# EAGLE library part INTERFACE (library Doc-Test_Interface)
Acquisition interface 160 pin AMP M Series
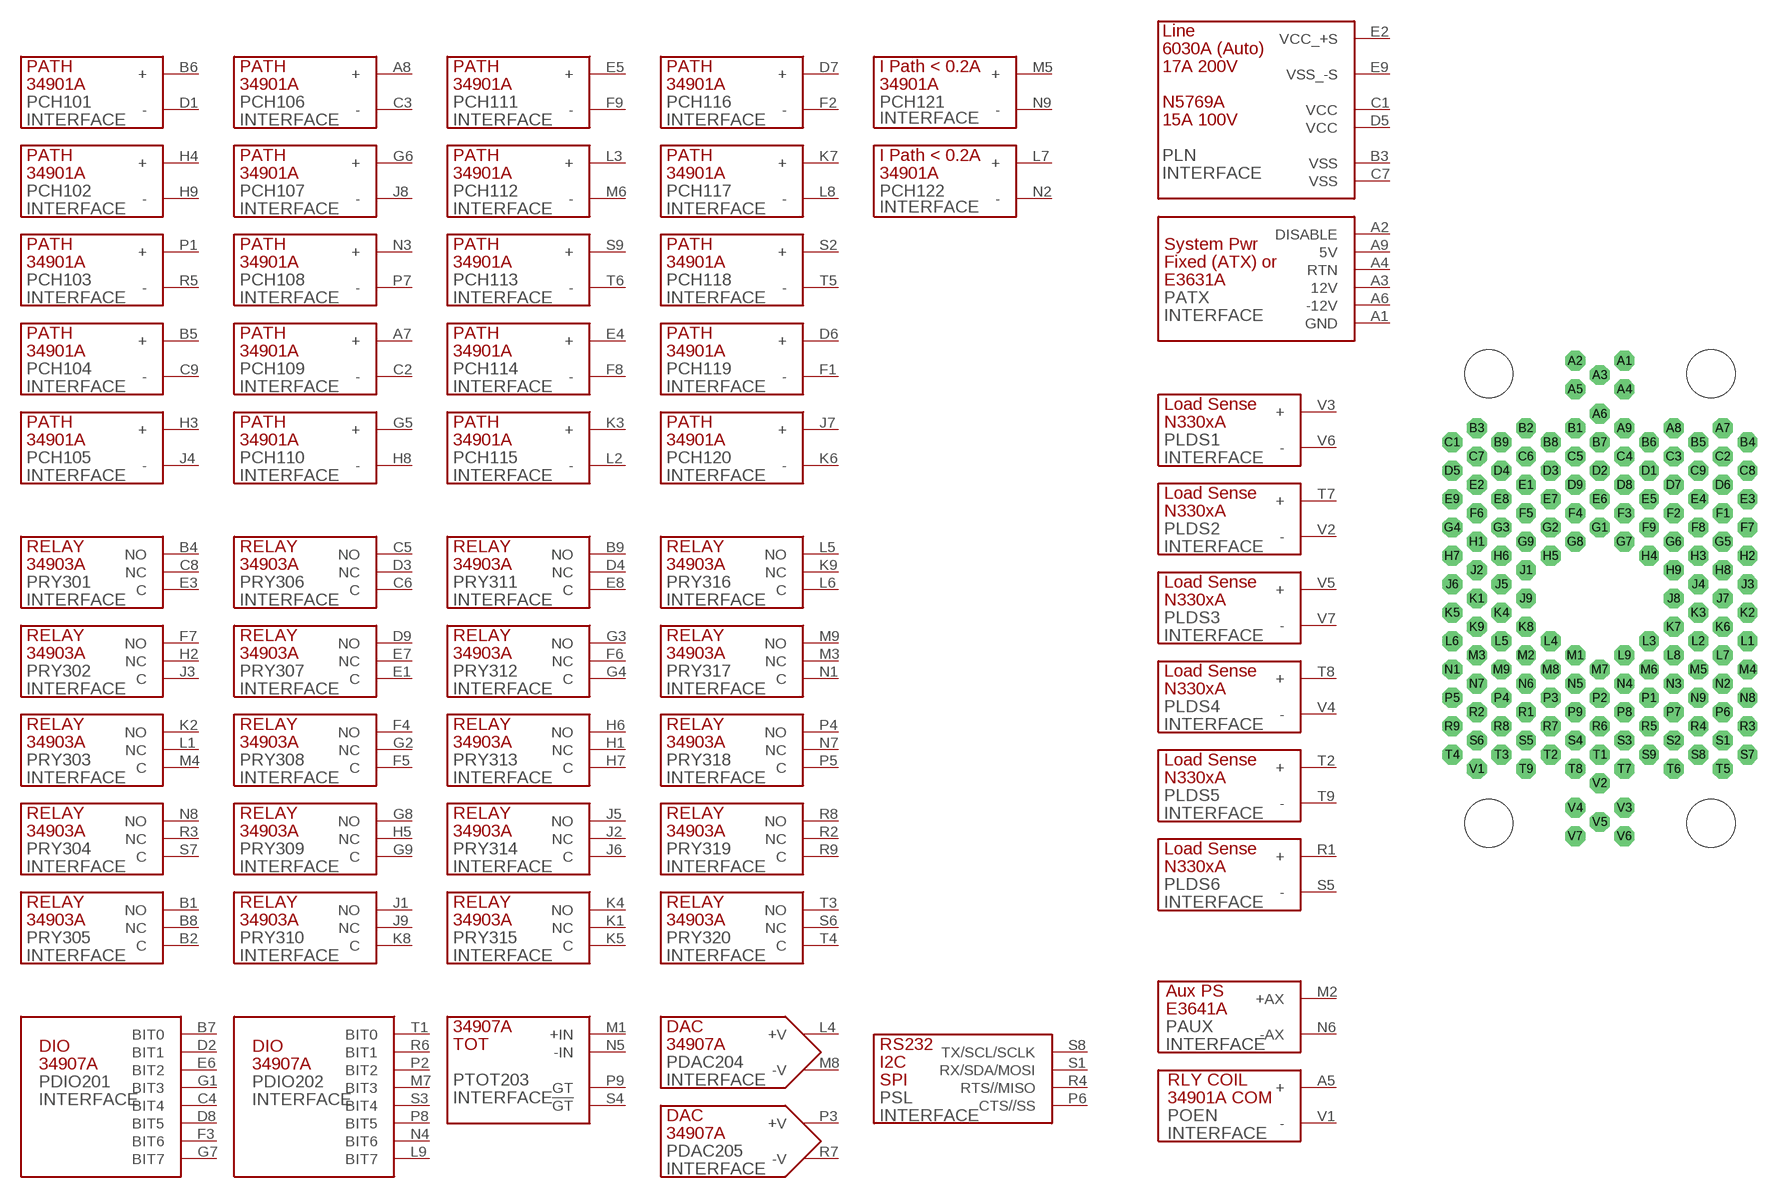
[diagram p6: symbol with the pads of 202800; footprint 202800]

Designator prefix P; gates CH101=PATH CH102=PATH CH103=PATH CH104=PATH CH105=PATH CH106=PATH CH107=PATH CH108=PATH CH109=PATH CH110=PATH CH111=PATH CH112=PATH CH113=PATH CH114=PATH CH115=PATH CH116=PATH CH117=PATH CH118=PATH CH119=PATH CH120=PATH RY301=RELAY RY302=RELAY RY303=RELAY RY304=RELAY RY305=RELAY RY306=RELAY RY307=RELAY RY308=RELAY RY309=RELAY RY310=RELAY RY311=RELAY RY312=RELAY RY313=RELAY RY314=RELAY RY315=RELAY RY316=RELAY RY317=RELAY RY318=RELAY RY319=RELAY RY320=RELAY DIO201=DIO DIO202=DIO TOT203=TOTALIZER DAC204=DAC DAC205=DAC LN=LINE ATX=SYSPWR LDS1=SENSE LDS2=SENSE LDS3=SENSE LDS4=SENSE LDS5=SENSE LDS6=SENSE AUX=AUX OEN=OSCEN CH121=IPATH CH122=IPATH SL=SERIAL

## INTERFACE  [202800]
A1  ATX:GND  pwr
A2  ATX:DISABLE  pwr
A3  ATX:12V  pwr
A4  ATX:RTN  pwr
A5  OEN:+  in
A6  ATX:-12V  pwr
A7  CH109:+  in
A8  CH106:+  in
A9  ATX:5V  pwr
B1  RY305:NO  in
B2  RY305:C  in
B3  LN:VSS  pwr
B4  RY301:NO  in
B5  CH104:+  in
B6  CH101:+  in
B7  DIO201:BIT0  in
B8  RY305:NC  in
B9  RY311:NO  in
C1  LN:VCC  pwr
C2  CH109:-  in
C3  CH106:-  in
C4  DIO201:BIT4  in
C5  RY306:NO  in
C6  RY306:C  in
C7  LN:VSS  pwr
C8  RY301:NC  in
C9  CH104:-  in
D1  CH101:-  in
D2  DIO201:BIT1  in
D3  RY306:NC  in
D4  RY311:NC  in
D5  LN:VCC  pwr
D6  CH119:+  in
D7  CH116:+  in
D8  DIO201:BIT5  in
D9  RY307:NO  in
E1  RY307:C  in
E2  LN:VCC_+S  pas
E3  RY301:C  in
E4  CH114:+  in
E5  CH111:+  in
E6  DIO201:BIT2  in
E7  RY307:NC  in
E8  RY311:C  in
E9  LN:VSS_-S  pas
F1  CH119:-  in
F2  CH116:-  in
F3  DIO201:BIT6  in
F4  RY308:NO  in
F5  RY308:C  in
F6  RY312:NC  in
F7  RY302:NO  in
F8  CH114:-  in
F9  CH111:-  in
G1  DIO201:BIT3  in
G2  RY308:NC  in
G3  RY312:NO  in
G4  RY312:C  in
G5  CH110:+  in
G6  CH107:+  in
G7  DIO201:BIT7  in
G8  RY309:NO  in
G9  RY309:C  in
H1  RY313:NC  in
H2  RY302:NC  in
H3  CH105:+  in
H4  CH102:+  in
H5  RY309:NC  in
H6  RY313:NO  in
H7  RY313:C  in
H8  CH110:-  in
H9  CH102:-  in
J1  RY310:NO  in
J2  RY314:NC  in
J3  RY302:C  in
J4  CH105:-  in
J5  RY314:NO  in
J6  RY314:C  in
J7  CH120:+  in
J8  CH107:-  in
J9  RY310:NC  in
K1  RY315:NC  in
K2  RY303:NO  in
K3  CH115:+  in
K4  RY315:NO  in
K5  RY315:C  in
K6  CH120:-  in
K7  CH117:+  in
K8  RY310:C  in
K9  RY316:NC  in
L1  RY303:NC  in
L2  CH115:-  in
L3  CH112:+  in
L4  DAC204:+V  in
L5  RY316:NO  in
L6  RY316:C  in
L7  CH122:+  in
L8  CH117:-  in
L9  DIO202:BIT7  in
M1  TOT203:+IN  in
M2  AUX:+AX  in
M3  RY317:NC  in
M4  RY303:C  in
M5  CH121:+  in
M6  CH112:-  in
M7  DIO202:BIT3  in
M8  DAC204:-V  in
M9  RY317:NO  in
N1  RY317:C  in
N2  CH122:-  in
N3  CH108:+  in
N4  DIO202:BIT6  in
N5  TOT203:-IN  in
N6  AUX:-AX  in
N7  RY318:NC  in
N8  RY304:NO  in
N9  CH121:-  in
P1  CH103:+  in
P2  DIO202:BIT2  in
P3  DAC205:+V  in
P4  RY318:NO  in
P5  RY318:C  in
P6  SL:CTS//SS  in
P7  CH108:-  in
P8  DIO202:BIT5  in
P9  TOT203:GT  in
R1  LDS6:+  in
R2  RY319:NC  in
R3  RY304:NC  in
R4  SL:RTS//MISO  out
R5  CH103:-  in
R6  DIO202:BIT1  in
R7  DAC205:-V  in
R8  RY319:NO  in
R9  RY319:C  in
S1  SL:RX/SDA/MOSI  in
S2  CH118:+  in
S3  DIO202:BIT4  in
S4  TOT203:!GT  in
S5  LDS6:-  in
S6  RY320:NC  in
S7  RY304:C  in
S8  SL:TX/SCL/SCLK  out
S9  CH113:+  in
T1  DIO202:BIT0  in
T2  LDS5:+  in
T3  RY320:NO  in
T4  RY320:C  in
T5  CH118:-  in
T6  CH113:-  in
T7  LDS2:+  in
T8  LDS4:+  in
T9  LDS5:-  in
V1  OEN:-  in
V2  LDS2:-  in
V3  LDS1:+  in
V4  LDS4:-  in
V5  LDS3:+  in
V6  LDS1:-  in
V7  LDS3:-  in

## Footprint 202800 (pad centres in mm)
drill 1.778 octagon: A1 3.302,31.877; A2 -3.302,31.877; A3 0,29.972; A4 3.302,28.067; A5 -3.302,28.067; A6 0,24.765; A7 16.51,22.86; A8 9.906,22.86; A9 3.302,22.86; B1 -3.302,22.86; B2 -9.906,22.86; B3 -16.51,22.86; B4 19.812,20.955; B5 13.208,20.955; B6 6.604,20.955; B7 0,20.955; B8 -6.604,20.955; B9 -13.208,20.955; C1 -19.812,20.955; C2 16.51,19.05; C3 9.906,19.05; C4 3.302,19.05; C5 -3.302,19.05; C6 -9.906,19.05; C7 -16.51,19.05; C8 19.812,17.145; C9 13.208,17.145; D1 6.604,17.145; D2 0,17.145; D3 -6.604,17.145; D4 -13.208,17.145; D5 -19.812,17.145; D6 16.51,15.24; D7 9.906,15.24; D8 3.302,15.24; D9 -3.302,15.24; E1 -9.906,15.24; E2 -16.51,15.24; E3 19.812,13.335; E4 13.208,13.335; E5 6.604,13.335; E6 0,13.335; E7 -6.604,13.335; E8 -13.208,13.335; E9 -19.812,13.335; F1 16.51,11.43; F2 9.906,11.43; F3 3.302,11.43; F4 -3.302,11.43; F5 -9.906,11.43; F6 -16.51,11.43; F7 19.812,9.525; F8 13.208,9.525; F9 6.604,9.525; G1 0,9.525; G2 -6.604,9.525; G3 -13.208,9.525; G4 -19.812,9.525; G5 16.51,7.62; G6 9.906,7.62; G7 3.302,7.62; G8 -3.302,7.62; G9 -9.906,7.62; H1 -16.51,7.62; H2 19.812,5.715; H3 13.208,5.715; H4 6.604,5.715; H5 -6.604,5.715; H6 -13.208,5.715; H7 -19.812,5.715; H8 16.51,3.81; H9 9.906,3.81; J1 -9.906,3.81; J2 -16.51,3.81; J3 19.812,1.905; J4 13.208,1.905; J5 -13.208,1.905; J6 -19.812,1.905; J7 16.51,0; J8 9.906,0; J9 -9.906,0; K1 -16.51,0; K2 19.812,-1.905; K3 13.208,-1.905; K4 -13.208,-1.905; K5 -19.812,-1.905; K6 16.51,-3.81; K7 9.906,-3.81; K8 -9.906,-3.81; K9 -16.51,-3.81; L1 19.812,-5.715; L2 13.208,-5.715; L3 6.604,-5.715; L4 -6.604,-5.715; L5 -13.208,-5.715; L6 -19.812,-5.715; L7 16.51,-7.62; L8 9.906,-7.62; L9 3.302,-7.62; M1 -3.302,-7.62; M2 -9.906,-7.62; M3 -16.51,-7.62; M4 19.812,-9.525; M5 13.208,-9.525; M6 6.604,-9.525; M7 0,-9.525; M8 -6.604,-9.525; M9 -13.208,-9.525; N1 -19.812,-9.525; N2 16.51,-11.43; N3 9.906,-11.43; N4 3.302,-11.43; N5 -3.302,-11.43; N6 -9.906,-11.43; N7 -16.51,-11.43; N8 19.812,-13.335; N9 13.208,-13.335; P1 6.604,-13.335; P2 0,-13.335; P3 -6.604,-13.335; P4 -13.208,-13.335; P5 -19.812,-13.335; P6 16.51,-15.24; P7 9.906,-15.24; P8 3.302,-15.24; P9 -3.302,-15.24; R1 -9.906,-15.24; R2 -16.51,-15.24; R3 19.812,-17.145; R4 13.208,-17.145; R5 6.604,-17.145; R6 0,-17.145; R7 -6.604,-17.145; R8 -13.208,-17.145; R9 -19.812,-17.145; S1 16.51,-19.05; S2 9.906,-19.05; S3 3.302,-19.05; S4 -3.302,-19.05; S5 -9.906,-19.05; S6 -16.51,-19.05; S7 19.812,-20.955; S8 13.208,-20.955; S9 6.604,-20.955; T1 0,-20.955; T2 -6.604,-20.955; T3 -13.208,-20.955; T4 -19.812,-20.955; T5 16.51,-22.86; T6 9.906,-22.86; T7 3.302,-22.86; T8 -3.302,-22.86; T9 -9.906,-22.86; V1 -16.51,-22.86; V2 0,-24.765; V3 3.302,-28.067; V4 -3.302,-28.067; V5 0,-29.972; V6 3.302,-31.877; V7 -3.302,-31.877
hole 6.452 at -14.91,30.15
hole 6.452 at 14.91,-30.15
hole 6.452 at 14.91,30.15
hole 6.452 at -14.91,-30.15